# EAGLE library part MINI04_ALL_PINS (library arduino)
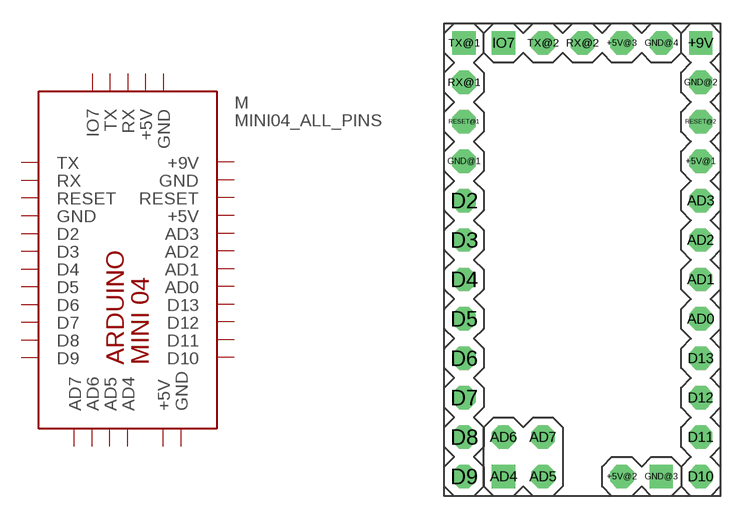
[diagram p0: symbol with the pads of MINI04_ALL_PINS; footprint MINI04_ALL_PINS]

Designator prefix M

## MINI04_ALL_PINS  [MINI04_ALL_PINS]
+5V@1  +5V  pwr
+5V@2  +5V  pwr
+5V@3  +5V  pwr
+9V  +9V  pwr
AD0  AD0  in
AD1  AD1  in
AD2  AD2  in
AD3  AD3  in
AD4  AD4  in
AD5  AD5  in
AD6  AD6  in
AD7  AD7  in
D2  D2
D3  D3
D4  D4
D5  D5
D6  D6
D7  D7
D8  D8
D9  D9
D10  D10
D11  D11
D12  D12
D13  D13
GND@1  GND  pwr
GND@2  GND  pwr
GND@3  GND  pwr
GND@4  GND  pwr
IO7  IO7
RESET@1  RESET  in
RESET@2  RESET  in
RX@1  RX  in
RX@2  RX  in
TX@1  TX  out
TX@2  TX  out

## Footprint MINI04_ALL_PINS (pad centres in mm)
drill 1 octagon: +5V@1 10.16,0; +5V@2 5.08,-20.32; +5V@3 5.08,7.62; AD0 10.16,-10.16; AD1 10.16,-7.62; AD2 10.16,-5.08; AD3 10.16,-2.54; AD5 0,-20.32; AD6 -2.54,-17.78; AD7 0,-17.78; D2 -5.08,-2.54; D3 -5.08,-5.08; D4 -5.08,-7.62; D5 -5.08,-10.16; D6 -5.08,-12.7; D7 -5.08,-15.24; D8 -5.08,-17.78; D9 -5.08,-20.32; D10 10.16,-20.32; D11 10.16,-17.78; D12 10.16,-15.24; D13 10.16,-12.7; GND@1 -5.08,0; GND@2 10.16,5.08; GND@4 7.62,7.62; RESET@1 -5.08,2.54; RESET@2 10.16,2.54; RX@1 -5.08,5.08; RX@2 2.54,7.62; TX@2 0,7.62
drill 1 square: +9V 10.16,7.62; AD4 -2.54,-20.32; GND@3 7.62,-20.32; IO7 -2.54,7.62; TX@1 -5.08,7.62